# Altium schematic symbol library SMD_diodes.SchLib: 1 symbol
Pins are listed as number, name and electrical type; pins without a type are passive.

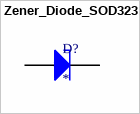
[diagram p0: symbol Zener_Diode_SOD323]

## Zener_Diode_SOD323
designator D?
footprint SOD323
pins: 1 A, 2 K